# EAGLE library part MC100LVELT22DTG (library on-semiconductor-01)
Dual Differential LVPECL/LVDS to LVTTL Translator
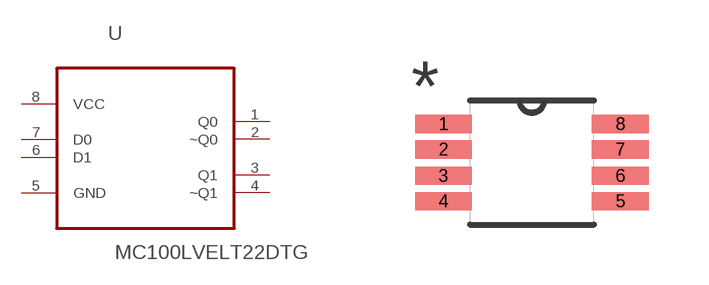
[diagram p151: symbol with the pads of SOP65P490X110-8N; footprint SOP65P490X110-8N]

Designator prefix U

## MC100LVELT22DTG (MPN: MC100LVELT22DTG; OC_FARNELL: 1150428; OC_NEWARK: 45J0986; PACKAGE: TSSOP-8; SUPPLIER: On Semiconductor)  [SOP65P490X110-8N]
1  Q0  out
2  ~Q0  out
3  Q1  out
4  ~Q1  out
5  GND  pas
6  D1  in
7  D0  in
8  VCC  pwr

## Footprint SOP65P490X110-8N (pad centres in mm)
smd 1.422 x 0.457: 1 -2.21,0.965; 2 -2.21,0.33; 3 -2.21,-0.33; 4 -2.21,-0.965; 5 2.21,-0.965; 6 2.21,-0.33; 7 2.21,0.33; 8 2.21,0.965